# Altium footprint library AB26TRQ_5X2X15.PcbLib: 1 footprints
Each footprint in its own frame and in the unit in brackets; x right, y up, seen from the top. Pads: shape width x height; smd on the part's side, far side on the other; paste and mask are expansions set on the pad; w line width, h text height; cw(c..) or ccw(c..) is an arc to the next point about the centre after c.
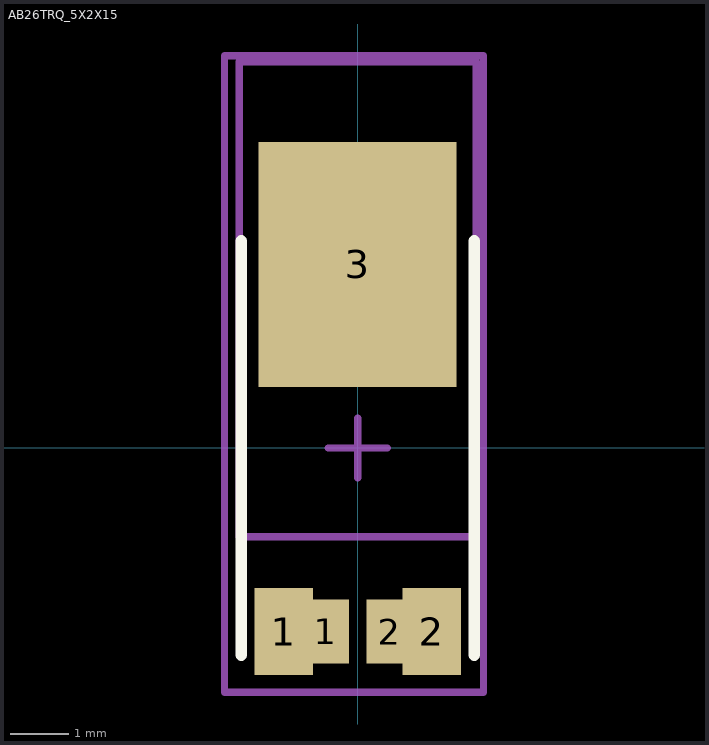
[diagram p0: the footprint, top view; thin cyan lines are the x and y axes]

## AB26TRQ_5X2X15 [mm]
pads (5):
  rect 1x1.5 smd: 1(-1.27,-3.15) 2(1.27,-3.15)
  rect 0.8x1.1 smd: 1(-0.55,-3.15) 2(0.55,-3.15)
  rect 3.4x4.2 smd: 3(0,3.15)
Top Overlay:
  lines w0.203: -2,-3.55 -2,3.55 ; 2,-3.55 2,3.55
Top Paste:
  rectangle: 0.33,-3.531 1.422,-2.769
  rectangle: -1.168,-3.531 -0.33,-2.769
Mechanical 13:
  lines w0.127: -2.032,-1.524 -1.905,-1.524 2.032,-1.524 2.032,6.632 -2.032,6.632 -2.032,-1.524
Mechanical 15:
  lines w0.127: -0.508,0 0.508,0 ; 0,-0.508 0,0.508 ; -2.286,-4.191 -2.286,6.731 -2.159,6.731 2.159,6.731 2.159,-4.191 -2.286,-4.191
Mechanical 17:
  text "'.Designator'" at -0.381,5.588 h0.64
3D body "User Library-Crystal TH.step": height 1.6, standoff -1.6, extent -1.676,-4.143 1.774,6.632